# Altium footprint library PCB11.PcbLib: 19 footprints (part 2 of 2)
Each footprint in its own frame and in the unit in brackets; x right, y up, seen from the top. Pads: shape width x height; smd on the part's side, far side on the other; paste and mask are expansions set on the pad; w line width, h text height; cw(c..) or ccw(c..) is an arc to the next point about the centre after c.
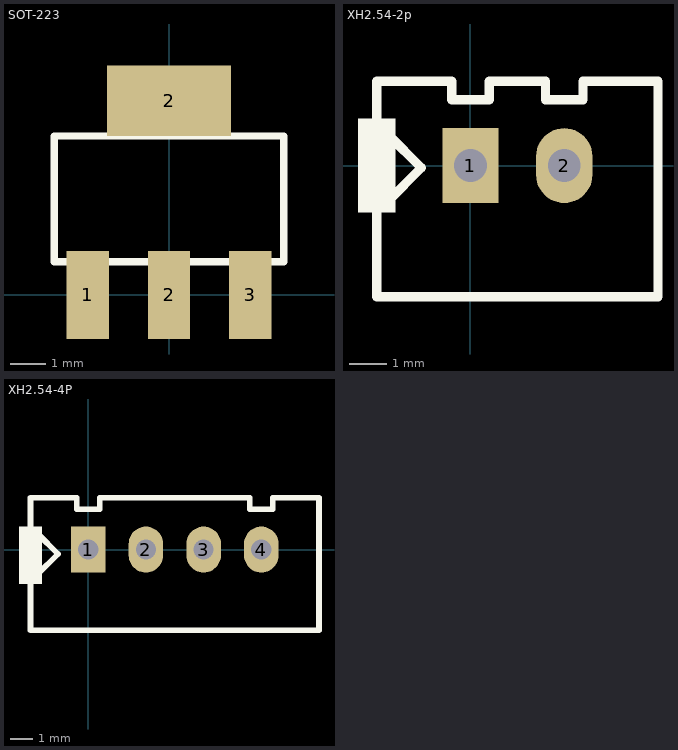
[diagram p1: the footprints below, top view; thin cyan lines are the x and y axes]

## SOT-223 [mm]
pads (4):
  rect 1.2x2.5 smd: 1(-2.3,0) 2(0,0) 3(2.3,0)
  rect 3.5x2 smd: 2(0,5.5)
Top Overlay:
  lines w0.203: -3.25,0.94 -3.25,4.5 3.25,4.5 3.25,0.94 -3.25,0.94

## XH2.54-2p [mil]
pads (2):
  rect 60x80 hole 35: 1(0,0)
  oval 60x80 hole 35: 2(100,0)
Top Overlay:
  region: -80,50 -120,50 -120,-50 -80,-50
  lines w10: -87.44,-37.44 -52.44,-2.44 -87.44,32.56 ; -100,-140 200,-140 200,90 120,90 120,70 80,70 80,90 20,90 20,70 -20,70 -20,90 -100,90 -100,-140
3D body: height 255.91, standoff 0, extent -100,-140 200,40
3D body: height 255.91, standoff 0, extent -100,60 -20,90
3D body: height 255.91, standoff 0, extent 20,60 80,90
3D body: height 255.91, standoff 0, extent 120,60 200,90
3D body: height 78.74, standoff 0, extent -100,-140 200,90
3D body: height 236.22, standoff -78.74, extent -16,-16 15.37,15.43
3D body: height 236.22, standoff -78.74, extent 84,-16 115.37,15.43

## XH2.54-4P [mil]
pads (4):
  rect 60x80 hole 35: 1(0,0)
  oval 60x80 hole 35: 2(100,0) 3(200,0) 4(300,0)
Top Overlay:
  region: -80,40 -120,40 -120,-60 -80,-60
  lines w10: -87.44,-42.56 -52.44,-7.56 -87.44,27.44 ; -100,-140 400,-140 400,90 320,90 320,70 280,70 280,90 20,90 20,70 -20,70 -20,90 -100,90 -100,-140
3D body: height 78.74, standoff 0, extent -100,-140 400,90
3D body: height 255.91, standoff 0, extent 320,60 400,90
3D body: height 255.91, standoff 0, extent 20,60 280,90
3D body: height 255.91, standoff 0, extent -100,60 -20,90
3D body: height 255.91, standoff 0, extent -100,-140 400,40
3D body: height 236.22, standoff -78.74, extent -16,-16 15.37,15.43
3D body: height 236.22, standoff -78.74, extent 84,-16 115.37,15.43
3D body: height 236.22, standoff -78.74, extent 184,-16 215.37,15.43
3D body: height 236.22, standoff -78.74, extent 284,-16 315.37,15.43